# EAGLE library part MAX339 (library tdcs)
MAX338 is a dual 4 to 1 analog de/mux with a wide rang of single/dual supply options Switched signals must be within Vdd>Vsignal>Vss. <400Ohm on-resistance, <20pA leakage when off. Datasheet <http://datasheets.maximintegrated.com/en/ds/MAX338-MAX339.pdf>
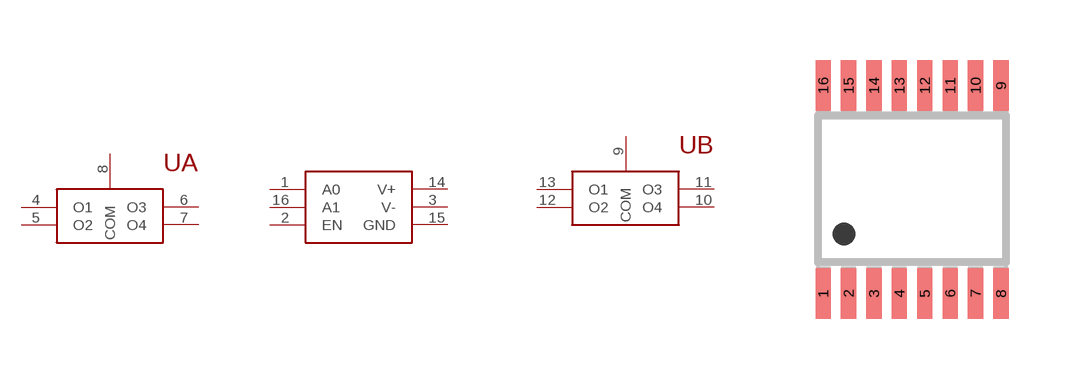
[diagram p3: symbol with the pads of QSOP16; footprint QSOP16]

Designator prefix U; gates A=MAX339_A G$2=MAX339_D B=MAX339_A

## MAX339  [QSOP16]
1  G$2:A0  pas
2  G$2:EN  pas
3  G$2:V-  pas
4  A:O1  pas
5  A:O2  pas
6  A:O3  pas
7  A:O4  pas
8  A:COM  pas
9  B:COM  pas
10  B:O4  pas
11  B:O3  pas
12  B:O2  pas
13  B:O1  pas
14  G$2:V+  in
15  G$2:GND  in
16  G$2:A1  pas

## Footprint QSOP16 (pad centres in mm)
16-Lead Shrink Small Outline Package QSOP (RQ-16) Source: ADG658_659.pdf
smd 0.381 x 1.27: 1 -2.223,-2.6; 2 -1.587,-2.6; 3 -0.953,-2.6; 4 -0.318,-2.6; 5 0.318,-2.6; 6 0.953,-2.6; 7 1.587,-2.6; 8 2.223,-2.6; 9 2.223,2.6; 10 1.587,2.6; 11 0.953,2.6; 12 0.318,2.6; 13 -0.318,2.6; 14 -0.953,2.6; 15 -1.587,2.6; 16 -2.223,2.6